# Altium schematic symbol library Diode power  panasonic SC-110A.SchLib: 1 symbol
Pins are listed as number, name and electrical type; pins without a type are passive.

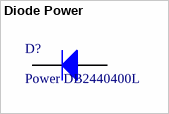
[diagram p0: symbol Diode Power]

## Diode Power
designator D?, comment Power DB2440400L
Panasonic SC-110A,DB2440400L,  Mini2-F2-B
footprint Diode power SC-110A (panasonic  SC-110A power diode 3-5A)
pins: A, K